# EAGLE library part MICRO-USB-B-SMD-R/A(ST-USB-001E) (library Seeed-OPL-Connector)
320010015
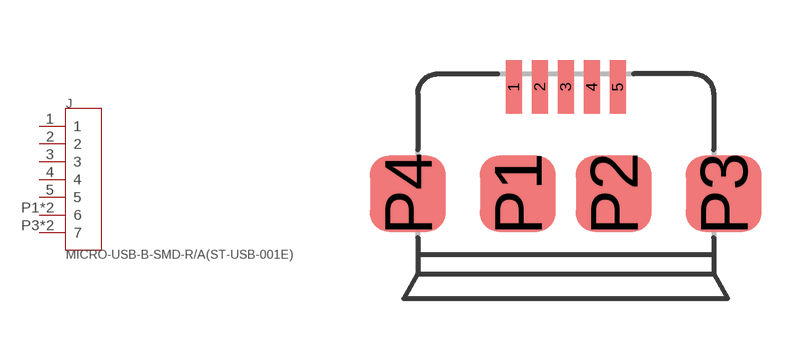
[diagram p74: symbol with the pads of MICRO-USB5+4P-SMD-0.65; footprint MICRO-USB5+4P-SMD-0.65]

Designator prefix J

## MICRO-USB-B-SMD-R/A(ST-USB-001E) (MPN: ST-USB-001E; VALUE: ST-USB-001E)  [MICRO-USB5+4P-SMD-0.65]
1  1
2  2
3  3
4  4
5  5
P1  6
P2  6
P3  7
P4  7

## Footprint MICRO-USB5+4P-SMD-0.65 (pad centres in mm)
smd 0.4 x 1.35: 1 -1.3,2.675; 2 -0.65,2.675; 3 0,2.675; 4 0.65,2.675; 5 1.3,2.675
smd 1.9 x 1.9: P1 -1.2,0; P2 1.2,0; P3 3.95,0; P4 -3.95,0